# EAGLE library part USBLC6-4 (library JKW_CHIP)
Automotive very low capacitance ESD protection 4 line Features 4 data-line protection Protects V BUS Very low capacitance: 3 pF Very low leakage current: 10 nA SOT23-6L package RoHS compliant AEC Q101 qualified
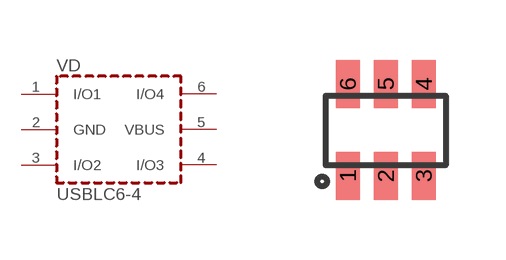
[diagram p4: symbol with the pads of SOT-23-6L; footprint SOT-23-6L]

Designator prefix VD

## USBLC6-4SC6  [SOT-23-6L]
1  I/O1
2  GND
3  I/O2
4  I/O3
5  VBUS
6  I/O4

## Footprint SOT-23-6L (pad centres in mm)
smd 0.6 x 1.2: 1 -0.95,-2.3; 2 0,-2.3; 3 0.95,-2.3; 4 0.95,0; 5 0,0; 6 -0.95,0